# Altium footprint library PCB_Master.PcbLib: 31 footprints (part 2 of 2)
Each footprint in its own frame and in the unit in brackets; x right, y up, seen from the top. Pads: shape width x height; smd on the part's side, far side on the other; paste and mask are expansions set on the pad; w line width, h text height; cw(c..) or ccw(c..) is an arc to the next point about the centre after c.
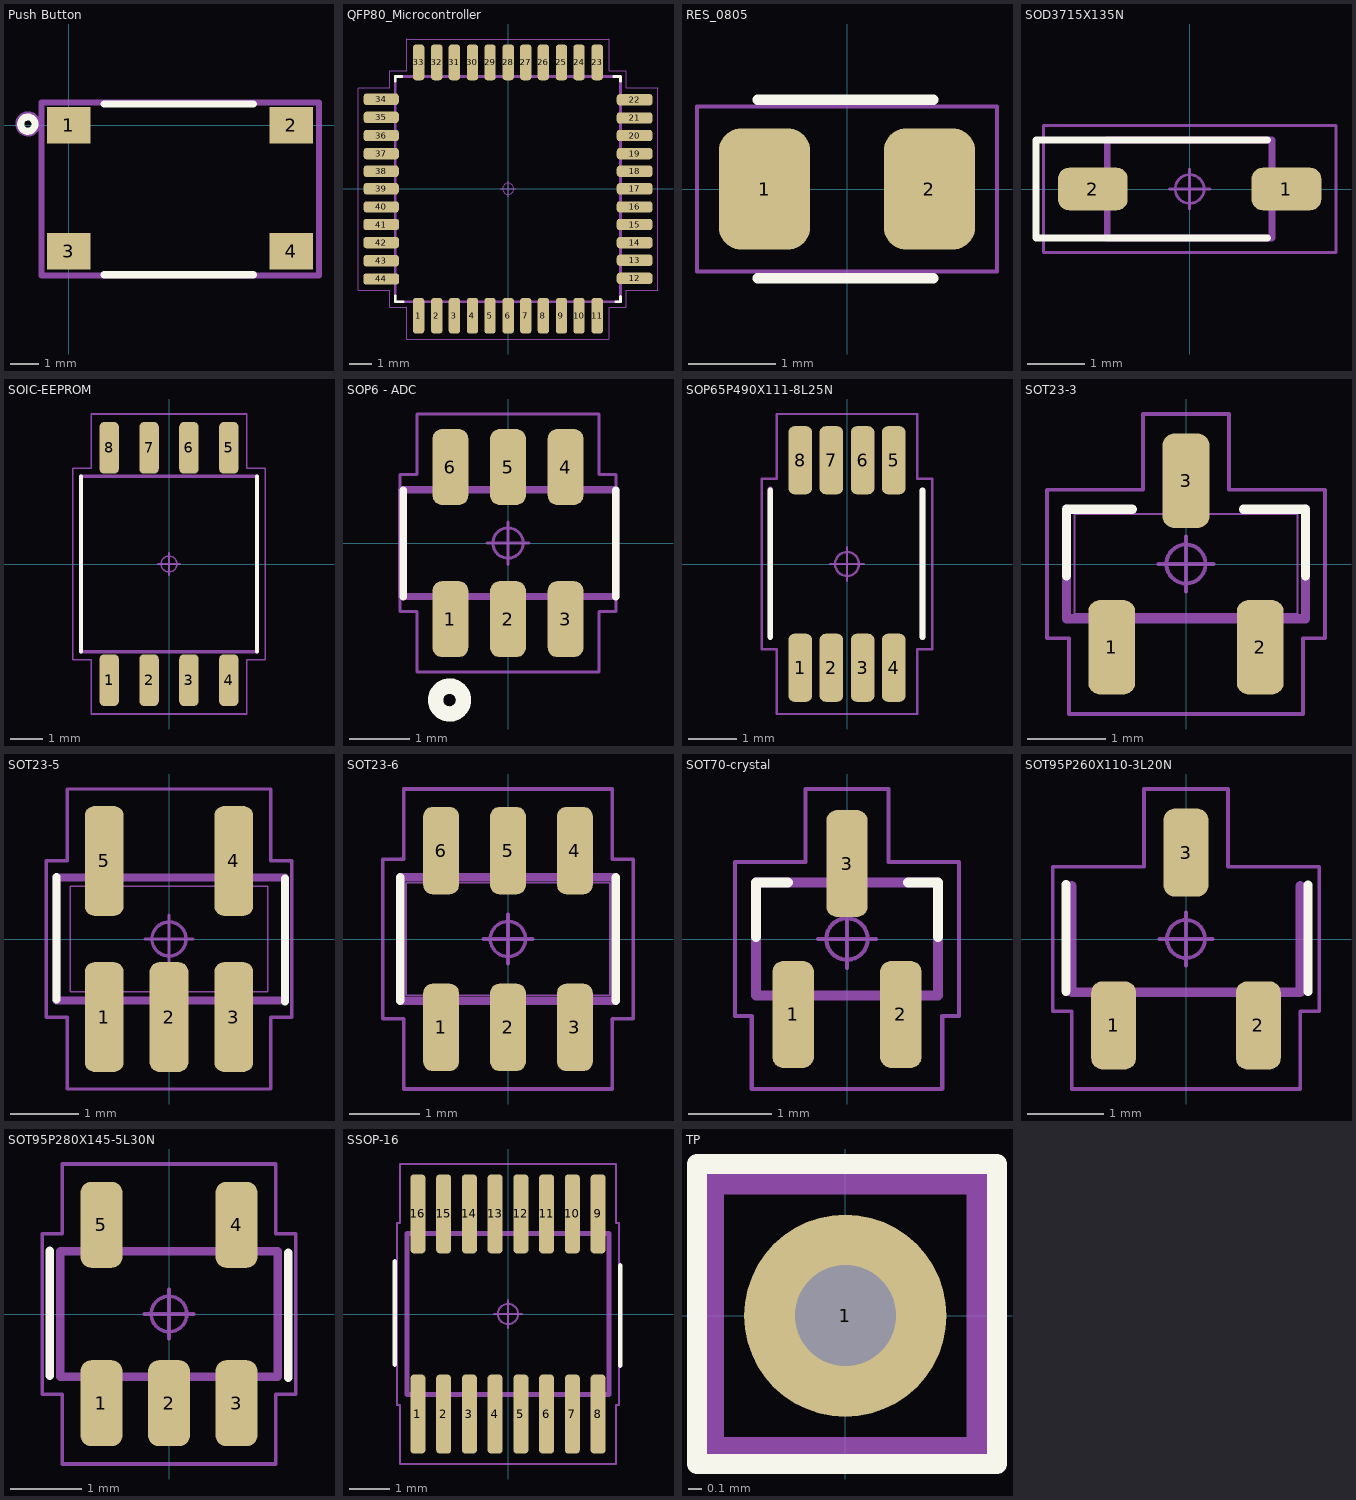
[diagram p1: the footprints below, top view; thin cyan lines are the x and y axes]

## Push Button [mm]
pads (4):
  rect 1.55x1.3 smd: 1(0,0) 2(7.95,0) 3(0,-4.5) 4(7.95,-4.5)
Top Overlay:
  circle w0.254: c-1.454,0.042 r0.254
  lines w0.254: 1.27,-5.334 6.604,-5.334 ; 1.27,0.762 6.604,0.762
Mechanical 15:
  circle w0.254: c-1.448,0.051 r0.321
  lines w0.203: -0.965,-5.359 8.941,-5.359 8.941,0.813 -0.965,0.813 -0.965,-5.359
3D body "User Library-PTS645SL50SMTR92-LFS.STEP": height 5, standoff 0, extent -0.436,-5.159 8.564,0.841

## QFP80_Microcontroller [mil] "Quad Flat Pack (QFP), 0.80 mm pitch; square, 11 pin X 11 pin, 10.00 mm L X 10.00 mm W X 1.20 mm H body"
height 47.24
pads (44):
  rrect51% 20x62.99 smd mask+6: 1(-158,-224) 2(-126,-224) 3(-95,-224) 4(-63,-224) 5(-32,-224) 6(0,-224) 7(31,-224) 8(62,-224) 9(94,-224) 10(125,-224) 11(157,-224) 23(157,223) 24(125,223) 25(94,223) 26(62,223) 27(31,223) 28(0,223) 29(-32,223) 30(-63,223) 31(-95,223) 32(-126,223) 33(-158,223)
  rrect51% 62.99x20 smd mask+6: 12(223,-158) 13(223,-126) 14(223,-95) 15(223,-63) 16(223,-32) 17(223,0) 18(223,31) 19(223,62) 20(223,94) 21(223,125) 22(223,157) 41(-224,-63) 42(-224,-95) 43(-224,-127) 44(-224,-159)
  rrect51% 62x20 smd mask+6: 34(-224,158) 35(-224,126) 36(-224,94) 37(-224,62) 38(-224,31) 39(-224,0) 40(-224,-32)
Top Overlay:
  lines w4.72: -199,-189 -199,-199 -185,-199 ; -199,190 -199,198 -188,198 ; 186,198 198,198 198,190 ; 190,-199 198.23,-199 ; 198,-199 198,-190
Mechanical 11:
  lines w4.72: -199,198 198.64,198 ; -199,198.64 -199,-199 198.64,-199 ; 198,-199 198,198.64
Mechanical 15:
  circle w1.97: c0,0 r9.84
  lines w1.97: -265,177.69 -265,-179 -208.7,-179 ; -265,178 -208.7,178 ; -209,-178.69 -209,-209 -178.69,-209 ; -209,178 -209,208.31 ; -209,208 -178.69,208 ; -179,-208.7 -179,-265 177.69,-265 ; -179,208 -179,264.3 ; -179,264 177.69,264 ; -14,0 13.56,0 ; 0,-14 0,13.56 ; 178,-265 178,-208.7 ; 178,-209 208.31,-209 ; 178,264.3 178,208 208.31,208 ; 208,-209 208,-178.69 ; 208,-179 264.3,-179 ; 208,208.31 208,178 264.3,178 ; 264,-179 264,177.69
3D body "User Library-TQFP44.step": height 42.15, standoff -0.02, extent -237,-235 235.44,237.44

## RES_0805 [mm] "Resistor, Chip; 2.00 mm L X 1.25 mm W X 0.70 mm H body"
height 0.7
pads (2):
  rrect48% 1.04x1.38 smd: 1(-0.94,0) 2(0.94,0)
Top Overlay:
  lines w0.12: -1.016,-1.016 0.984,-1.016 ; -1.016,1.016 0.984,1.016
Mechanical 15:
  lines w0.05: -1.71,-0.94 -1.71,0.94 1.71,0.94 1.71,-0.94 -1.71,-0.94
3D body "User Library-RES_2013-0805.step": height 0.76, standoff 0, extent -1.15,-0.675 1.15,0.675

## SOD3715X135N [mm] "Small Outline Diode (SOD); 2.70 mm L X 1.55 mm W X 1.35 mm H body"
height 1.35
pads (2):
  rrect51% 1.21x0.74 smd: 1(1.68,0) 2(-1.68,0)
Top Overlay:
  lines w0.12: 1.35,-0.85 -2.667,-0.85 -2.667,0.85 1.35,0.85
Mechanical 11:
  lines w0.12: -1.43,-0.85 1.43,-0.85 1.43,0.85 -1.43,0.85 -1.43,-0.85
Mechanical 15:
  circle w0.05: c0,0 r0.25
  lines w0.05: -0.35,0 0.35,0 ; 0,-0.35 0,0.35 ; -2.54,-1.1 2.54,-1.1 2.54,1.1 -2.54,1.1 -2.54,-1.1
3D body "CircuitWorks-SOD123.step": height 1.27, standoff 0, extent -1.977,-0.8 1.723,0.8

## SOIC-EEPROM [mm] "Small Outline Pkg (SOP), 1.25 mm pitch; 8 pin, 5.26 mm L X 5.25 mm W X 2.03 mm H body"
height 2.03
pads (8):
  rrect49% 0.61x1.62 smd: 1(-1.875,-3.64) 2(-0.625,-3.64) 3(0.625,-3.64) 4(1.875,-3.64) 5(1.875,3.64) 6(0.625,3.64) 7(-0.625,3.64) 8(-1.875,3.64)
Top Overlay:
  lines w0.12: -2.76,-2.75 -2.76,2.75 ; 2.76,-2.75 2.76,2.75
Mechanical 11:
  lines w0.12: -2.76,-2.75 -2.76,2.75 2.76,2.75 2.76,-2.75 -2.76,-2.75
Mechanical 15:
  circle w0.05: c0,0 r0.25
  lines w0.05: -0.35,0 0.35,0 ; 0,-0.35 0,0.35 ; -3.01,-3 -2.43,-3 -2.43,-4.7 2.43,-4.7 2.43,-3 3.01,-3 3.01,3 2.43,3 2.43,4.7 -2.43,4.7 -2.43,3 -3.01,3 -3.01,-3
3D body "User Library-SOIC8_Wide_5mmx5mm.step": height 1.75, standoff -0.01, extent -2.755,-4.052 2.705,4.05

## SOP6 - ADC [mm] "Small Outline Pkg (SOP), 0.95 mm pitch; 6 pin, 2.90 mm L X 1.60 mm W X 1.10 mm H body"
height 1.1
pads (6):
  rrect51% 0.59x1.25 smd mask+0.203: 1(-0.95,-1.255) 2(0,-1.255) 3(0.95,-1.255) 4(0.95,1.255) 5(0,1.255) 6(-0.95,1.255)
Top Overlay:
  circle w0.254: c-0.965,-2.591 r0.23
  lines w0.12: -1.727,-0.889 -1.727,0.871 ; 1.78,-0.889 1.78,0.871
Mechanical 11:
  lines w0.12: -1.753,-0.88 -1.753,0.88 1.78,0.88 1.78,-0.88 -1.753,-0.88
Mechanical 15:
  circle w0.05: c0,0 r0.25
  lines w0.05: -0.35,0 0.35,0 ; 0,-0.35 0,0.35 ; -1.78,-1.13 -1.5,-1.13 -1.5,-2.13 1.5,-2.13 1.5,-1.13 1.78,-1.13 1.78,1.13 1.5,1.13 1.5,2.13 -1.5,2.13 -1.5,1.13 -1.78,1.13 -1.78,-1.13
3D body "User Library-SOT23-6-2.step": height 1.45, standoff 0, extent -1.425,-1.349 1.476,1.451

## SOP65P490X111-8L25N [mm] "Small Outline Pkg (SOP), 0.65 mm pitch; 8 pin, 3.00 mm L X 3.00 mm W X 1.11 mm H body"
height 1.11
pads (8):
  rrect49% 0.49x1.42 smd: 1(-0.975,-2.165) 2(-0.325,-2.165) 3(0.325,-2.165) 4(0.975,-2.165) 5(0.975,2.165) 6(0.325,2.165) 7(-0.325,2.165) 8(-0.975,2.165)
Top Overlay:
  lines w0.12: -1.6,-1.524 -1.6,1.536 ; 1.575,-1.524 1.575,1.536
Mechanical 11:
  lines w0.12: -1.6,-1.499 -1.6,1.561 ; 1.575,-1.524 1.575,1.536
Mechanical 15:
  circle w0.05: c0,0 r0.25
  lines w0.05: -0.35,0 0.35,0 ; 0,-0.35 0,0.35 ; -1.78,-1.78 -1.78,1.78 -1.47,1.78 -1.47,3.13 1.47,3.13 1.47,1.78 1.78,1.78 1.78,-1.78 1.47,-1.78 1.47,-3.13 -1.47,-3.13 -1.47,-1.78 -1.78,-1.78

## SOT23-3 [mm] "MCP1700"
height 1.12
pads (3):
  rrect50% 0.6x1.21 smd: 1(-0.95,-1.065) 2(0.95,-1.065) 3(0,1.065)
Top Overlay:
  lines w0.12: -1.53,-0.152 -1.53,0.7 -0.686,0.7 ; 0.737,0.7 1.53,0.7 1.53,-0.152
Mechanical 11:
  lines w0.12: -1.53,0.7 -1.53,-0.7 1.53,-0.7 1.53,0.7
Mechanical 12:
  lines w0.025: -1.43,-0.64 -1.43,0.64 1.43,0.64 1.43,-0.64 -1.43,-0.64 ; -1.16,-1.185 -0.74,-1.185 -0.74,-0.82 -1.16,-0.82 -1.16,-1.185 ; -0.21,0.82 0.21,0.82 0.21,1.185 -0.21,1.185 -0.21,0.82 ; 0.74,-1.185 1.16,-1.185 1.16,-0.82 0.74,-0.82 0.74,-1.185
Mechanical 15:
  circle w0.05: c0,0 r0.25
  lines w0.05: -0.35,0 0.35,0 ; 0,-0.35 0,0.35 ; -1.78,-0.95 -1.5,-0.95 -1.5,-1.92 1.5,-1.92 1.5,-0.95 1.78,-0.95 1.78,0.95 0.55,0.95 0.55,1.92 -0.55,1.92 -0.55,0.95 -1.78,0.95 -1.78,-0.95
3D body "SOT23-3.STEP": height 1, standoff -0.01, extent -1.5,-1.25 1.5,1.25

## SOT23-5 [mm] "MCP73831"
height 1.45
pads (5):
  rrect49% 0.57x1.61 smd mask+0.191: 1(-0.95,-1.145) 2(0,-1.145) 3(0.95,-1.145)
  rrect49% 0.57x1.61 smd: 4(0.95,1.145) 5(-0.95,1.145)
Top Overlay:
  lines w0.12: -1.651,-0.889 -1.651,0.911 ; 1.702,-0.914 1.702,0.886
Mechanical 11:
  lines w0.12: -1.651,-0.9 -1.651,0.9 1.702,0.9 1.702,-0.9 -1.651,-0.9
Mechanical 12:
  lines w0.025: -1.45,-0.775 -1.45,0.775 1.45,0.775 1.45,-0.775 -1.45,-0.775 ; -1.128,-1.35 -0.773,-1.35 -0.773,-1 -1.128,-1 -1.128,-1.35 ; -1.128,1 -0.773,1 -0.773,1.35 -1.128,1.35 -1.128,1 ; -0.178,-1.35 0.178,-1.35 0.178,-1 -0.178,-1 -0.178,-1.35 ; 0.773,-1.35 1.128,-1.35 1.128,-1 0.773,-1 0.773,-1.35 ; 0.773,1 1.128,1 1.128,1.35 0.773,1.35 0.773,1
Mechanical 15:
  circle w0.05: c0,0 r0.25
  lines w0.05: -0.35,0 0.35,0 ; 0,-0.35 0,0.35 ; -1.8,-1.15 -1.49,-1.15 -1.49,-2.2 1.49,-2.2 1.49,-1.15 1.8,-1.15 1.8,1.15 1.49,1.15 1.49,2.2 -1.49,2.2 -1.49,1.15 -1.8,1.15 -1.8,-1.15
3D body "SOT23-5.STEP": height 1.43, standoff -0.01, extent -1.576,-1.6 1.524,1.6

## SOT23-6 [mm] "TPS6107x"
height 1.1
pads (6):
  rrect50% 0.508x1.24 smd mask+0.07: 1(-0.95,-1.255) 2(0,-1.255) 3(0.95,-1.255) 4(0.95,1.255) 5(0,1.255) 6(-0.95,1.255)
Top Overlay:
  lines w0.12: -1.53,-0.88 -1.53,0.88 ; 1.53,-0.88 1.53,0.88
Mechanical 11:
  lines w0.12: -1.53,-0.88 1.53,-0.88 1.53,0.88 -1.53,0.88 -1.53,-0.88
Mechanical 12:
  lines w0.025: -1.45,-0.8 1.45,-0.8 1.45,0.8 -1.45,0.8 -1.45,-0.8 ; -1.15,-1.4 -1.15,-0.95 -0.75,-0.95 -0.75,-1.4 -1.15,-1.4 ; -1.15,0.95 -1.15,1.4 -0.75,1.4 -0.75,0.95 -1.15,0.95 ; -0.2,-1.4 -0.2,-0.95 0.2,-0.95 0.2,-1.4 -0.2,-1.4 ; -0.2,0.95 -0.2,1.4 0.2,1.4 0.2,0.95 -0.2,0.95 ; 0.75,-1.4 0.75,-0.95 1.15,-0.95 1.15,-1.4 0.75,-1.4 ; 0.75,0.95 0.75,1.4 1.15,1.4 1.15,0.95 0.75,0.95
Mechanical 15:
  circle w0.05: c0,0 r0.25
  lines w0.05: -0.35,0 0.35,0 ; 0,-0.35 0,0.35 ; -1.78,-1.13 -1.78,1.13 -1.48,1.13 -1.48,2.13 1.48,2.13 1.48,1.13 1.78,1.13 1.78,-1.13 1.48,-1.13 1.48,-2.13 -1.48,-2.13 -1.48,-1.13 -1.78,-1.13
3D body "SOT23-6.STEP": height 1.09, standoff 0, extent -1.397,-1.213 1.397,1.213

## SOT70-crystal [mm] "Small Outline Transistor (SOT23), 0.65 mm pitch; 3 pin, 2.00 mm L X 1.25 mm W X 1.10 mm H body"
height 1.1
pads (3):
  rrect52% 0.5x1.29 smd: 1(-0.65,-0.91) 2(0.65,-0.91) 3(0,0.91)
Top Overlay:
  lines w0.12: -1.1,0.025 -1.1,0.68 -0.711,0.68 ; 0.737,0.68 1.1,0.68 1.1,0.025
Mechanical 11:
  lines w0.12: -1.1,-0.68 -1.1,0.68 1.1,0.68 1.1,-0.68 -1.1,-0.68
Mechanical 15:
  circle w0.05: c0,0 r0.25
  lines w0.05: -0.35,0 0.35,0 ; 0,-0.35 0,0.35 ; -1.35,-0.93 -1.35,0.93 -0.5,0.93 -0.5,1.81 0.5,1.81 0.5,0.93 1.35,0.93 1.35,-0.93 1.15,-0.93 1.15,-1.81 -1.15,-1.81 -1.15,-0.93 -1.35,-0.93
3D body "User Library-sc70-3.step": height 1, standoff 0, extent -1.05,-1.125 1.05,1.175

## SOT95P260X110-3L20N [mm] "Small Outline Transistor (SOT23), 0.95 mm pitch; 3 pin, 2.90 mm L X 1.30 mm W X 1.10 mm H body"
height 1.1
pads (3):
  rrect51% 0.59x1.16 smd: 1(-0.95,-1.135) 2(0.95,-1.135) 3(0,1.135)
Top Overlay:
  lines w0.12: -1.575,-0.686 -1.575,0.714 ; 1.6,-0.689 1.6,0.711
Mechanical 11:
  lines w0.12: -1.5,0.7 -1.5,-0.7 1.5,-0.7 1.5,0.7
Mechanical 15:
  circle w0.05: c0,0 r0.25
  lines w0.05: -0.35,0 0.35,0 ; 0,-0.35 0,0.35 ; -1.75,-0.95 -1.75,0.95 -0.55,0.95 -0.55,1.97 0.55,1.97 0.55,0.95 1.75,0.95 1.75,-0.95 1.5,-0.95 1.5,-1.97 -1.5,-1.97 -1.5,-0.95 -1.75,-0.95
3D body "User Library-N-MOS_BSS123_SOT23.STEP": height 1.02, standoff 0.02, extent -1.45,-1.27 1.45,1.03

## SOT95P280X145-5L30N [mm] "Small Outline Transistor (SOT23), 0.95 mm pitch; 5 pin, 2.90 mm L X 1.60 mm W X 1.45 mm H body"
height 1.45
pads (5):
  rrect51% 0.59x1.21 smd mask+0.191: 1(-0.95,-1.255) 2(0,-1.255) 3(0.95,-1.255)
  rrect51% 0.59x1.21 smd: 4(0.95,1.255) 5(-0.95,1.255)
Top Overlay:
  lines w0.12: -1.676,-0.871 -1.676,0.889 ; 1.676,-0.896 1.676,0.864
Mechanical 11:
  lines w0.12: -1.53,-0.88 -1.53,0.88 1.53,0.88 1.53,-0.88 -1.53,-0.88
Mechanical 15:
  circle w0.05: c0,0 r0.25
  lines w0.05: -0.35,0 0.35,0 ; 0,-0.35 0,0.35 ; -1.78,-1.13 -1.5,-1.13 -1.5,-2.11 1.5,-2.11 1.5,-1.13 1.78,-1.13 1.78,1.13 1.5,1.13 1.5,2.11 -1.5,2.11 -1.5,1.13 -1.78,1.13 -1.78,-1.13

## SSOP-16 [mm] "LTC3534"
height 1.75
pads (16):
  rrect49% 0.37x1.95 smd mask+0.152: 1(-2.222,-2.47) 2(-1.587,-2.47) 3(-0.953,-2.47) 4(-0.318,-2.47) 5(0.318,-2.47) 6(0.953,-2.47) 7(1.587,-2.47) 8(2.222,-2.47) 9(2.222,2.47) 10(1.587,2.47) 11(0.953,2.47) 12(0.318,2.47) 13(-0.318,2.47) 14(-0.953,2.47) 15(-1.587,2.47) 16(-2.222,2.47)
Top Overlay:
  lines w0.12: -2.794,-1.245 -2.794,1.295 ; 2.769,-1.27 2.769,1.194
Mechanical 11:
  lines w0.12: -2.49,-1.99 2.49,-1.99 2.49,1.99 -2.49,1.99 -2.49,-1.99
Mechanical 12:
  lines w0.025: -2.445,-1.95 2.445,-1.95 2.445,1.95 -2.445,1.95 -2.445,-1.95 ; -2.349,-3.004 -2.349,-2.166 -2.095,-2.166 -2.095,-3.004 -2.349,-3.004 ; -2.349,2.166 -2.349,3.004 -2.095,3.004 -2.095,2.166 -2.349,2.166 ; -1.714,-3.004 -1.714,-2.166 -1.46,-2.166 -1.46,-3.004 -1.714,-3.004 ; -1.714,2.166 -1.714,3.004 -1.46,3.004 -1.46,2.166 -1.714,2.166 ; -1.079,-3.004 -1.079,-2.166 -0.826,-2.166 -0.826,-3.004 -1.079,-3.004 ; -1.079,2.166 -1.079,3.004 -0.826,3.004 -0.826,2.166 -1.079,2.166 ; -0.445,-3.004 -0.445,-2.166 -0.191,-2.166 -0.191,-3.004 -0.445,-3.004 ; -0.445,2.166 -0.445,3.004 -0.191,3.004 -0.191,2.166 -0.445,2.166 ; 0.191,-3.004 0.191,-2.166 0.445,-2.166 0.445,-3.004 0.191,-3.004 ; 0.191,2.166 0.191,3.004 0.445,3.004 0.445,2.166 0.191,2.166 ; 0.826,-3.004 0.826,-2.166 1.079,-2.166 1.079,-3.004 0.826,-3.004 ; 0.826,2.166 0.826,3.004 1.079,3.004 1.079,2.166 0.826,2.166 ; 1.46,-3.004 1.46,-2.166 1.714,-2.166 1.714,-3.004 1.46,-3.004 ; 1.46,2.166 1.46,3.004 1.714,3.004 1.714,2.166 1.46,2.166 ; 2.095,-3.004 2.095,-2.166 2.349,-2.166 2.349,-3.004 2.095,-3.004 ; 2.095,2.166 2.095,3.004 2.349,3.004 2.349,2.166 2.095,2.166
Mechanical 15:
  circle w0.05: c0,0 r0.25
  lines w0.05: -0.35,0 0.35,0 ; 0,-0.35 0,0.35 ; -2.74,-2.25 -2.74,2.25 -2.66,2.25 -2.66,3.7 2.66,3.7 2.66,2.25 2.74,2.25 2.74,-2.25 2.66,-2.25 2.66,-3.7 -2.66,-3.7 -2.66,-2.25 -2.74,-2.25
3D body "SSOP-16.STEP": height 1.73, standoff -0.01, extent -2.5,-3.126 2.5,3.127

## TP [mil]
pads (1):
  round 60 hole 30: 1(0,0)
Top Overlay:
  lines w6: -44,-44 -44,45 45,45 45,-44 -44,-44
Mechanical 15:
  lines w8: -40,-40 -40,40 40,40 40,-40 -40,-40
3D body "User Library-Single Pin Header.step": height 318.31, standoff -106.69, extent -50,-50 50,50